# Altium footprint library JMPKG.PcbLib: 337 footprints (part 16 of 22)
Each footprint in its own frame and in the unit in brackets; x right, y up, seen from the top. Pads: shape width x height; smd on the part's side, far side on the other; paste and mask are expansions set on the pad; w line width, h text height; cw(c..) or ccw(c..) is an arc to the next point about the centre after c.
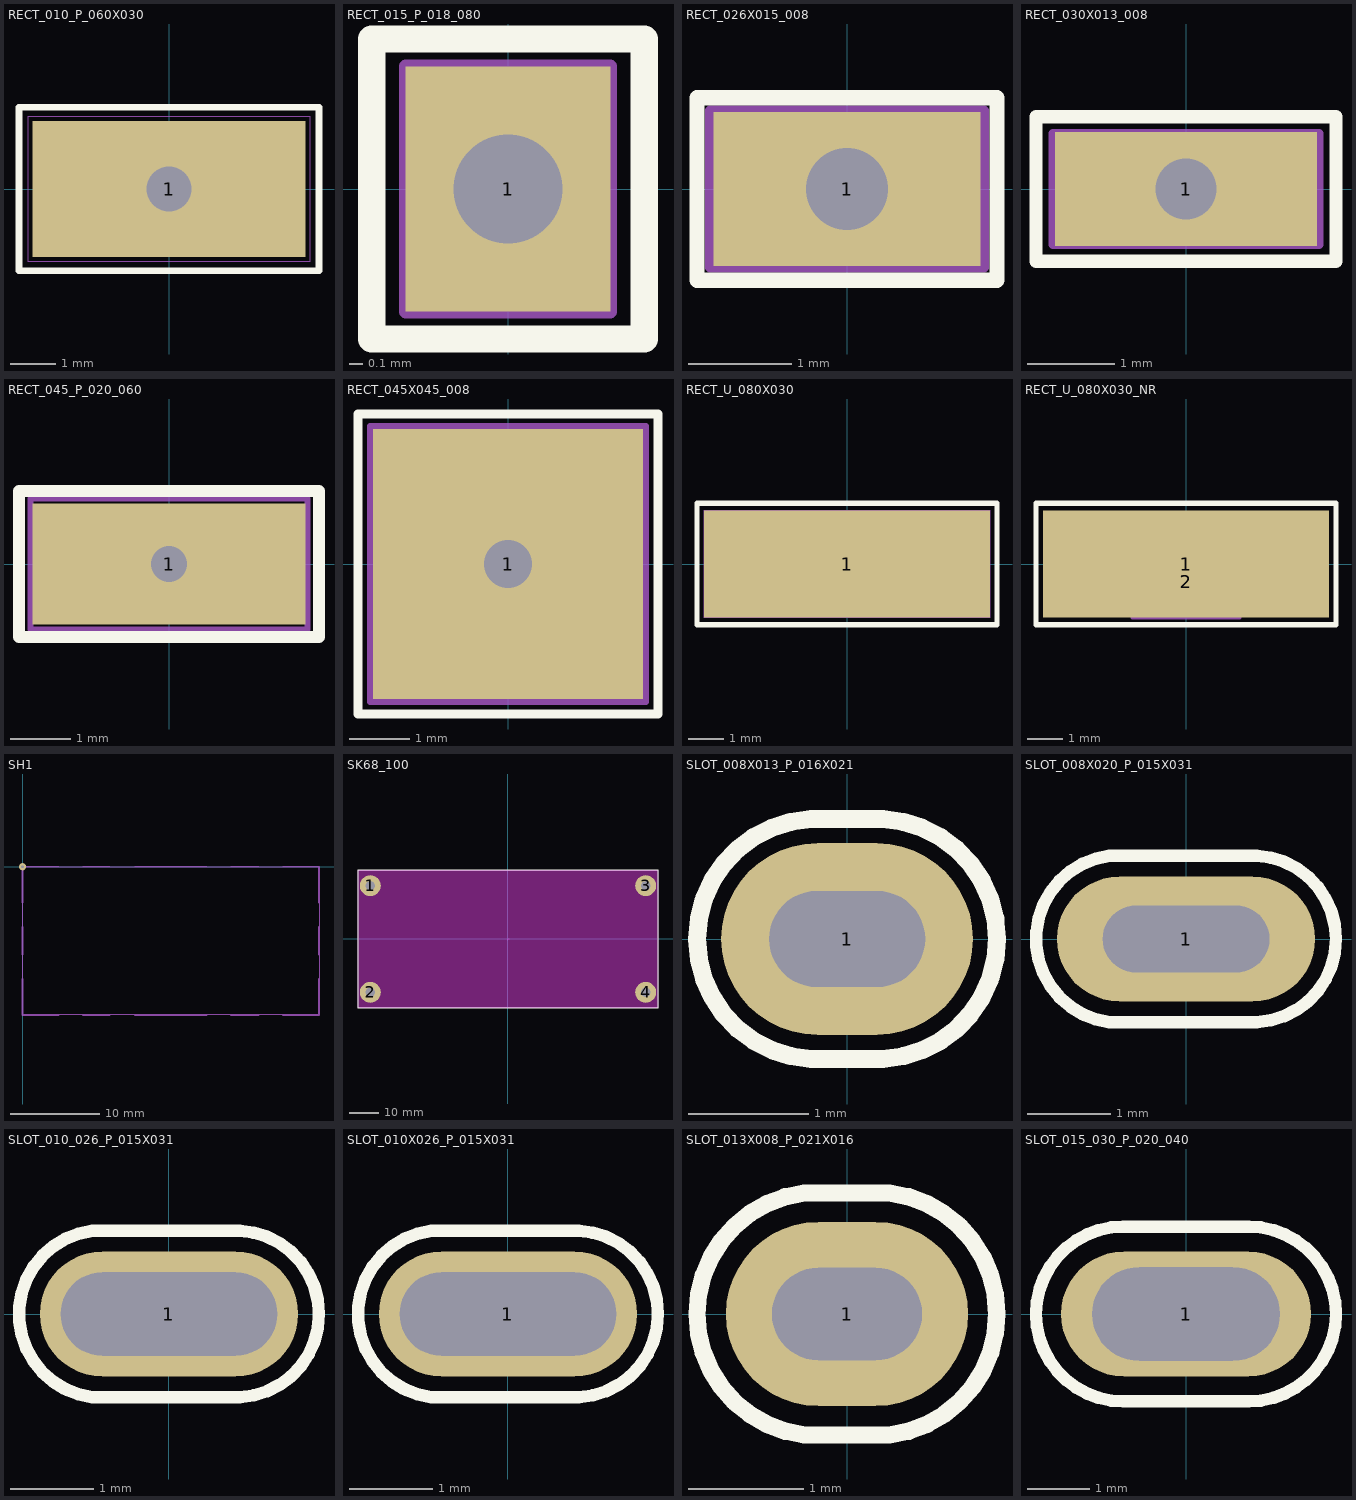
[diagram p15: the footprints below, top view; thin cyan lines are the x and y axes]

## RECT_010_P_060X030 [mm]
pads (1):
  rect 6x3 hole 1 mask+0.05: 1(0,0)
Top Overlay:
  lines w0.15: -3.3,-1.8 3.3,-1.8 3.3,1.8 -3.3,1.8 -3.3,-1.8
Mechanical 15:
  lines w0.01: -3.1,-1.6 3.1,-1.6 3.1,1.6 -3.1,1.6 -3.1,-1.6
Multi-Layer:
  text "Value" at -0.816,-1.13 h0.6
Mechanical 19:
  lines w0.01: -3.3,-1.8 3.3,-1.8 3.3,1.8 -3.3,1.8 -3.3,-1.8

## RECT_015_P_018_080 [mm]
pads (1):
  rect 1.5x1.8 hole 0.8 mask+0.05: 1(0,0)
Top Overlay:
  lines w0.2: -1,-1.1 1,-1.1 1,1.1 -1,1.1 -1,-1.1
Mechanical 15:
  lines w0.1: -0.75,-0.9 0.75,-0.9 0.75,0.9 -0.75,0.9 -0.75,-0.9
Multi-Layer:
  text "Value" at -1.108,-1.25 h0.75

## RECT_026X015_008 [mm]
pads (1):
  rect 2.6x1.5 hole 0.8 mask+0.05: 1(0,0)
Top Overlay:
  lines w0.15: -1.46,-0.889 1.46,-0.889 1.46,0.889 -1.46,0.889 -1.46,-0.889
Mechanical 15:
  lines w0.1: -1.333,-0.762 1.333,-0.762 1.333,0.762 -1.333,0.762 -1.333,-0.762
Mechanical 16:
  circle w0.1: c0,0 r0.35
Multi-Layer:
  text "Value" at -1.052,-0.731 h0.6
Mechanical 20:
  lines w0.1: -1.46,-0.889 1.46,-0.889 1.46,0.889 -1.46,0.889 -1.46,-0.889

## RECT_030X013_008 [mm]
pads (1):
  rect 3x1.3 / inner round 1.3 / far side round 1.3 hole 0.7 mask+0.05: 1(0,0)
Top Overlay:
  lines w0.15: -1.714,-0.826 1.714,-0.826 1.714,0.826 -1.714,0.826 -1.714,-0.826
Mechanical 15:
  lines w0.1: -1.524,-0.635 1.524,-0.635 1.524,0.635 -1.524,0.635 -1.524,-0.635
Mechanical 16:
  circle w0.1: c0,0 r0.35
Multi-Layer:
  text "Value" at -1.052,-0.731 h0.6

## RECT_045_P_020_060 [mm]
pads (1):
  rect 4.5x2 hole 0.6 mask+0.05: 1(0,0)
Top Overlay:
  lines w0.2: -2.476,-1.206 2.476,-1.206 2.476,1.206 -2.476,1.206 -2.476,-1.206
Mechanical 15:
  lines w0.1: -2.286,-1.079 2.286,-1.079 2.286,1.079 -2.286,1.079 -2.286,-1.079

## RECT_045X045_008 [mm]
pads (1):
  rect 4.5x4.5 hole 0.8 mask+0.05: 1(0,0)
Top Overlay:
  lines w0.15: -2.5,-2.5 2.5,-2.5 2.5,2.5 -2.5,2.5 -2.5,-2.5
Mechanical 15:
  lines w0.1: -2.3,-2.3 2.3,-2.3 2.3,2.3 -2.3,2.3 -2.3,-2.3
Multi-Layer:
  text "Value" at -0.988,-1.35 h0.6
Mechanical 20:
  lines w0.1: -2.5,-2.5 2.5,-2.5 2.5,2.5 -2.5,2.5 -2.5,-2.5

## RECT_U_080X030 [mm]
pads (1):
  rect 8x3 / inner round 0 / far side rect 8x3 all layers, no hole mask+0.05: 1(0,0)
Top Overlay:
  lines w0.15: -4.2,-1.7 4.2,-1.7 4.2,1.7 -4.2,1.7 -4.2,-1.7
Mechanical 15:
  lines w0.01: -4,-1.5 4,-1.5 4,1.5 -4,1.5 -4,-1.5
Multi-Layer:
  text "Value" at -0.929,-0.559 h0.6
Mechanical 20:
  lines w0.01: -4.2,-1.7 4.2,-1.7 4.2,1.7 -4.2,1.7 -4.2,-1.7

## RECT_U_080X030_NR [mm]
pads (2):
  rect 8x3 smd: 1(0,0)
  rect 3x2 smd mask+0.05: 2(0,-0.5)
Top Overlay:
  lines w0.15: -4.2,-1.7 4.2,-1.7 4.2,1.7 -4.2,1.7 -4.2,-1.7
Mechanical 15:
  lines w0.1: -1.5,-1.5 1.5,-1.5 1.5,0.5 -1.5,0.5 -1.5,-1.5
Multi-Layer:
  text "Value" at -0.861,-1.175 h0.6
Mechanical 20:
  lines w0.1: -4.2,-1.7 4.2,-1.7 4.2,1.7 -4.2,1.7 -4.2,-1.7

## SH1 [mm]
pads (1):
  round 0.8 hole 0.3: 1(0,0)
Top Solder:
  lines w1.5: 0,-12.5 0,-16.5 4,-16.5 ; 0,-9.8 0,-6.7 ; 0,-4 0,0 4,0 ; 6.7,-16.5 9.7,-16.5 ; 6.7,0 9.7,0 ; 12.5,-16.5 20.5,-16.5 ; 12.5,0 20.5,0 ; 23.2,-16.5 26.3,-16.5 ; 23.2,0 26.3,0 ; 29,-16.5 33,-16.5 33,-12.5 ; 29,0 33,0 33,-4 ; 33,-9.8 33,-6.7
Mechanical 15:
  lines w0.1: 0,-16.5 33,-16.5 33,0 0,0 0,-16.5
Mechanical 19:
  lines w0.2: 0,-12.5 0,-16.5 4,-16.5 ; 0,-9.8 0,-6.7 ; 0,-4 0,0 4,0 ; 6.7,-16.5 9.7,-16.5 ; 6.7,0 9.7,0 ; 12.5,-16.5 20.5,-16.5 ; 12.5,0 20.5,0 ; 23.2,-16.5 26.3,-16.5 ; 23.2,0 26.3,0 ; 29,-16.5 33,-16.5 33,-12.5 ; 29,0 33,0 33,-4 ; 33,-9.8 33,-6.7

## SK68_100 [mm]
pads (4):
  round 7 hole 3.2 mask+0.1: 1(-46,17.8) 2(-46,-17.8) 3(46,17.8) 4(46,-17.8)
L1-Top Layer keep-out:
  region: -49.9,22.9 49.9,22.9 49.9,-22.9 -49.9,-22.9
Top Overlay:
  lines w0.15: -50.1,-23.1 50.1,-23.1 50.1,23.1 -50.1,23.1 -50.1,-23.1
Mechanical 15:
  circle w0.1: c-46,17.8 r1.6
  circle w0.1: c-46,-17.8 r1.6
  circle w0.1: c46,17.8 r1.6
  circle w0.1: c46,-17.8 r1.6
  lines w0.1: -50,-23 50,-23 50,23 -50,23 -50,-23
Mechanical 16:
  circle w0.1: c-46,-17.8 r1.6
  circle w0.1: c-46,17.8 r1.6
  circle w0.1: c46,17.8 r1.6
  circle w0.1: c46,-17.8 r1.6
Mechanical 19:
  lines w0.1: 0,-0.5 0,0 0.5,0

## SLOT_008X013_P_016X021 [mm]
pads (1):
  oval 2.1x1.6 hole 0.8 slot 1.3 at 0 deg mask+0.05: 1(0,0)
Top Overlay:
  lines w0.15: -0.301,1 ccw(c-0.249,0) -0.299,-1 0.3,-1 ; -0.3,1 0.3,1 cw(c0.249,0) 0.301,-1
Drill Drawing:
  lines w0.01: -0.242,-0.4 cw(c-0.25,0) -0.242,0.4 0.25,0.4 cw(c0.25,0) 0.25,-0.4 -0.242,-0.4
Multi-Layer:
  text "Value" at -0.988,-0.655 h0.6
  text "Value" at -0.988,-0.725 h0.6
Mechanical 20:
  lines w0.01: -0.301,-1 cw(c-0.25,0) -0.299,1 ; -0.3,-1 0.3,-1 ; -0.3,1 0.3,1 cw(c0.249,0) 0.301,-1

## SLOT_008X020_P_015X031 [mm]
pads (1):
  oval 3.1x1.5 hole 0.8 slot 2 at 0 deg mask+0.05: 1(0,0)
Top Overlay:
  lines w0.15: -0.922,-1 cw(c-0.792,0) -0.92,1 ; -0.921,-1 0.846,-1 ; -0.921,1 0.846,1 ; 0.846,1 cw(c0.799,0) 0.848,-1
Drill Drawing:
  lines w0.01: -0.592,-0.4 0.6,-0.4 ccw(c0.6,0) 0.6,0.4 -0.592,0.4 ccw(c-0.6,0) -0.592,-0.4
Multi-Layer:
  text "Value" at -0.843,-0.405 h0.6
Mechanical 20:
  lines w0.01: -0.9,-1 0.85,-1 ; -0.899,-1 cw(c-0.796,0) -0.901,1 0.85,1 cw(c0.799,0) 0.851,-1

## SLOT_010_026_P_015X031 [mm]
pads (1):
  oval 3.1x1.5 hole 1 slot 2.6 at 0 deg mask+0.05: 1(0,0)
Top Overlay:
  lines w0.15: -0.922,-1 cw(c-0.792,0) -0.92,1 ; -0.921,-1 0.846,-1 ; -0.921,1 0.846,1 ; 0.846,1 cw(c0.799,0) 0.848,-1
Drill Drawing:
  lines w0.01: -0.8,-0.5 0.8,-0.5 ccw(c0.8,0) 0.8,0.5 -0.8,0.5 ccw(c-0.81,0) -0.8,-0.5
Multi-Layer:
  text "Value" at -0.863,-0.775 h0.6

## SLOT_010X026_P_015X031 [mm]
pads (1):
  oval 3.1x1.5 hole 1 slot 2.6 at 0 deg mask+0.05: 1(0,0)
Top Overlay:
  lines w0.15: -0.922,-1 cw(c-0.792,0) -0.92,1 ; -0.921,-1 0.846,-1 ; -0.921,1 0.846,1 ; 0.846,1 cw(c0.799,0) 0.848,-1
Drill Drawing:
  lines w0.01: -0.8,-0.5 0.8,-0.5 ccw(c0.8,0) 0.8,0.5 -0.8,0.5 ccw(c-0.81,0) -0.8,-0.5
Multi-Layer:
  text "Value" at -0.863,-0.775 h0.6

## SLOT_013X008_P_021X016 [mm]
pads (1):
  oval 2.1x1.6 hole 0.8 slot 1.3 at 0 deg mask+0.05: 1(0,0)
Top Overlay:
  lines w0.15: -0.371,1.05 ccw(c-0.244,0) -0.369,-1.05 ; -0.37,-1.05 0.369,-1.05 ; -0.37,1.05 0.369,1.05 cw(c0.242,0) 0.37,-1.05
Mechanical 15:
  lines w0.01: -0.25,-0.4 0.25,-0.4 ccw(c0.25,0) 0.25,0.4 -0.25,0.4 ccw(c-0.25,0) -0.25,-0.4
Mechanical 16:
  lines w0.01: -0.25,-0.4 0.25,-0.4 ccw(c0.25,0) 0.25,0.4 -0.25,0.4 ccw(c-0.25,0) -0.25,-0.4
Multi-Layer:
  text "Value" at -0.988,-0.725 h0.6
  text "Value" at -0.988,-0.655 h0.6
Mechanical 20:
  lines w0.01: -0.37,1.05 ccw(c-0.242,0) -0.368,-1.05 0.37,-1.05 ; -0.369,1.05 0.37,1.05 ; 0.369,1.05 cw(c0.244,0) 0.371,-1.05

## SLOT_015_030_P_020_040 [mm]
pads (1):
  oval 4x2 hole 1.5 slot 3 at 0 deg mask+0.25: 1(0,0)
Top Overlay:
  lines w0.2: -1.001,-1.4 1,-1.4 ccw(c1,0) 1,1.4 -1.001,1.4 ccw(c-1.001,0) -1.001,-1.4
Mechanical 15:
  lines w0.01: -0.75,-0.75 0.75,-0.75 ccw(c0.75,0) 0.75,0.75 -0.75,0.75 ccw(c-0.75,0) -0.75,-0.75
Multi-Layer:
  text "Value" at -1.145,-1.784 h0.75
  text "Value" at -1.235,0.62 h0.75